# EAGLE library part LT8491 (library Analog Devices)
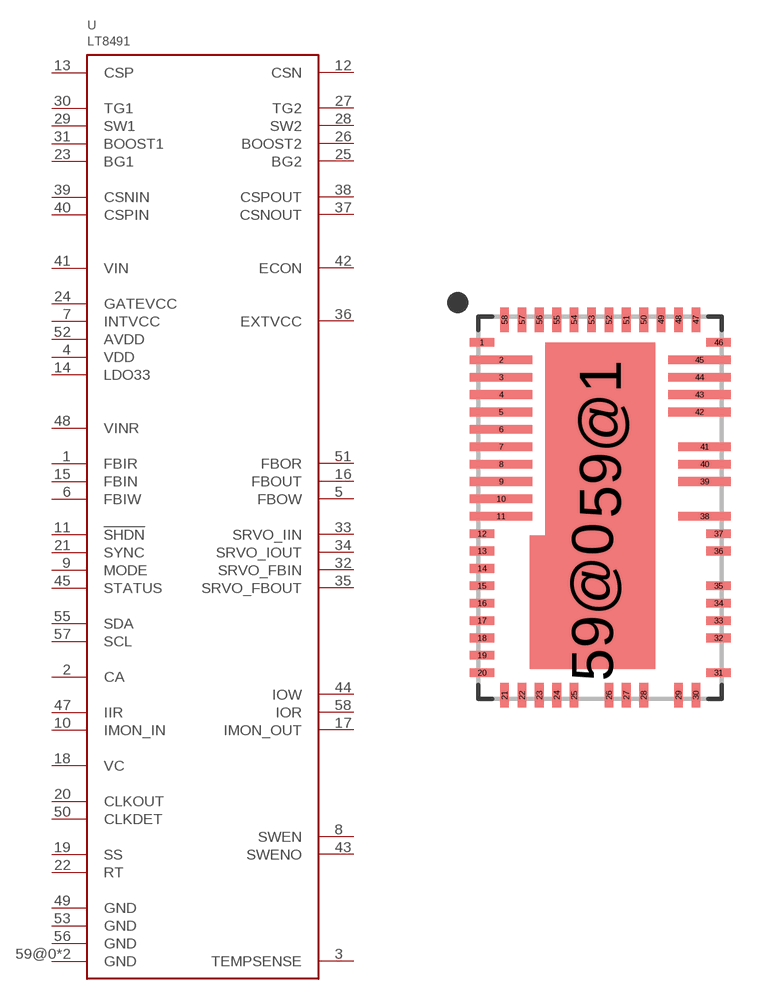
[diagram p30: symbol with the pads of QFN58; footprint QFN58]

Designator prefix U

## LT8491  [QFN58]
1  FBIR
2  CA
3  TEMPSENSE
4  VDD
5  FBOW
6  FBIW
7  INTVCC
8  SWEN
9  MODE
10  IMON_IN
11  !SHDN
12  CSN
13  CSP
14  LDO33
15  FBIN
16  FBOUT
17  IMON_OUT
18  VC
19  SS
20  CLKOUT
21  SYNC
22  RT
23  BG1
24  GATEVCC
25  BG2
26  BOOST2
27  TG2
28  SW2
29  SW1
30  TG1
31  BOOST1
32  SRVO_FBIN
33  SRVO_IIN
34  SRVO_IOUT
35  SRVO_FBOUT
36  EXTVCC
37  CSNOUT
38  CSPOUT
39  CSNIN
40  CSPIN
41  VIN
42  ECON
43  SWENO
44  IOW
45  STATUS
47  IIR
48  VINR
49  GND
50  CLKDET
51  FBOR
52  AVDD
53  GND
55  SDA
56  GND
57  SCL
58  IOR
59@0  GND
59@1  GND

## Footprint QFN58 (pad centres in mm)
smd 0.7 x 0.25: 1 -3.4,4.75; 12 -3.4,-0.75; 13 -3.4,-1.25; 14 -3.4,-1.75; 15 -3.4,-2.25; 16 -3.4,-2.75; 17 -3.4,-3.25; 18 -3.4,-3.75; 19 -3.4,-4.25; 20 -3.4,-4.75; 31 3.4,-4.75; 32 3.4,-3.75; 33 3.4,-3.25; 34 3.4,-2.75; 35 3.4,-2.25; 36 3.4,-1.25; 37 3.4,-0.75; 46 3.4,4.75
smd 1.8 x 0.25: 2 -2.85,4.25; 3 -2.85,3.75; 4 -2.85,3.25; 5 -2.85,2.75; 6 -2.85,2.25; 7 -2.85,1.75; 8 -2.85,1.25; 9 -2.85,0.75; 10 -2.85,0.25; 11 -2.85,-0.25; 42 2.85,2.75; 43 2.85,3.25; 44 2.85,3.75; 45 2.85,4.25
smd 0.25 x 0.7: 21 -2.75,-5.4; 22 -2.25,-5.4; 23 -1.75,-5.4; 24 -1.25,-5.4; 25 -0.75,-5.4; 26 0.25,-5.4; 27 0.75,-5.4; 28 1.25,-5.4; 29 2.25,-5.4; 30 2.75,-5.4; 47 2.75,5.4; 48 2.25,5.4; 49 1.75,5.4; 50 1.25,5.4; 51 0.75,5.4; 52 0.25,5.4; 53 -0.25,5.4; 54 -0.75,5.4; 55 -1.25,5.4; 56 -1.75,5.4; 57 -2.25,5.4; 58 -2.75,5.4
smd 1.5 x 0.25: 38 3,-0.25; 39 3,0.75; 40 3,1.25; 41 3,1.75
smd 3.6 x 3.83: 59@0 -0.225,-2.72
smd 3.15 x 5.55: 59@1 0,1.97